# Altium schematic symbol library IC_Samsung_SIP-007AFS001_eec.SchLib: 1 symbol
Pins are listed as number, name and electrical type; pins without a type are passive.

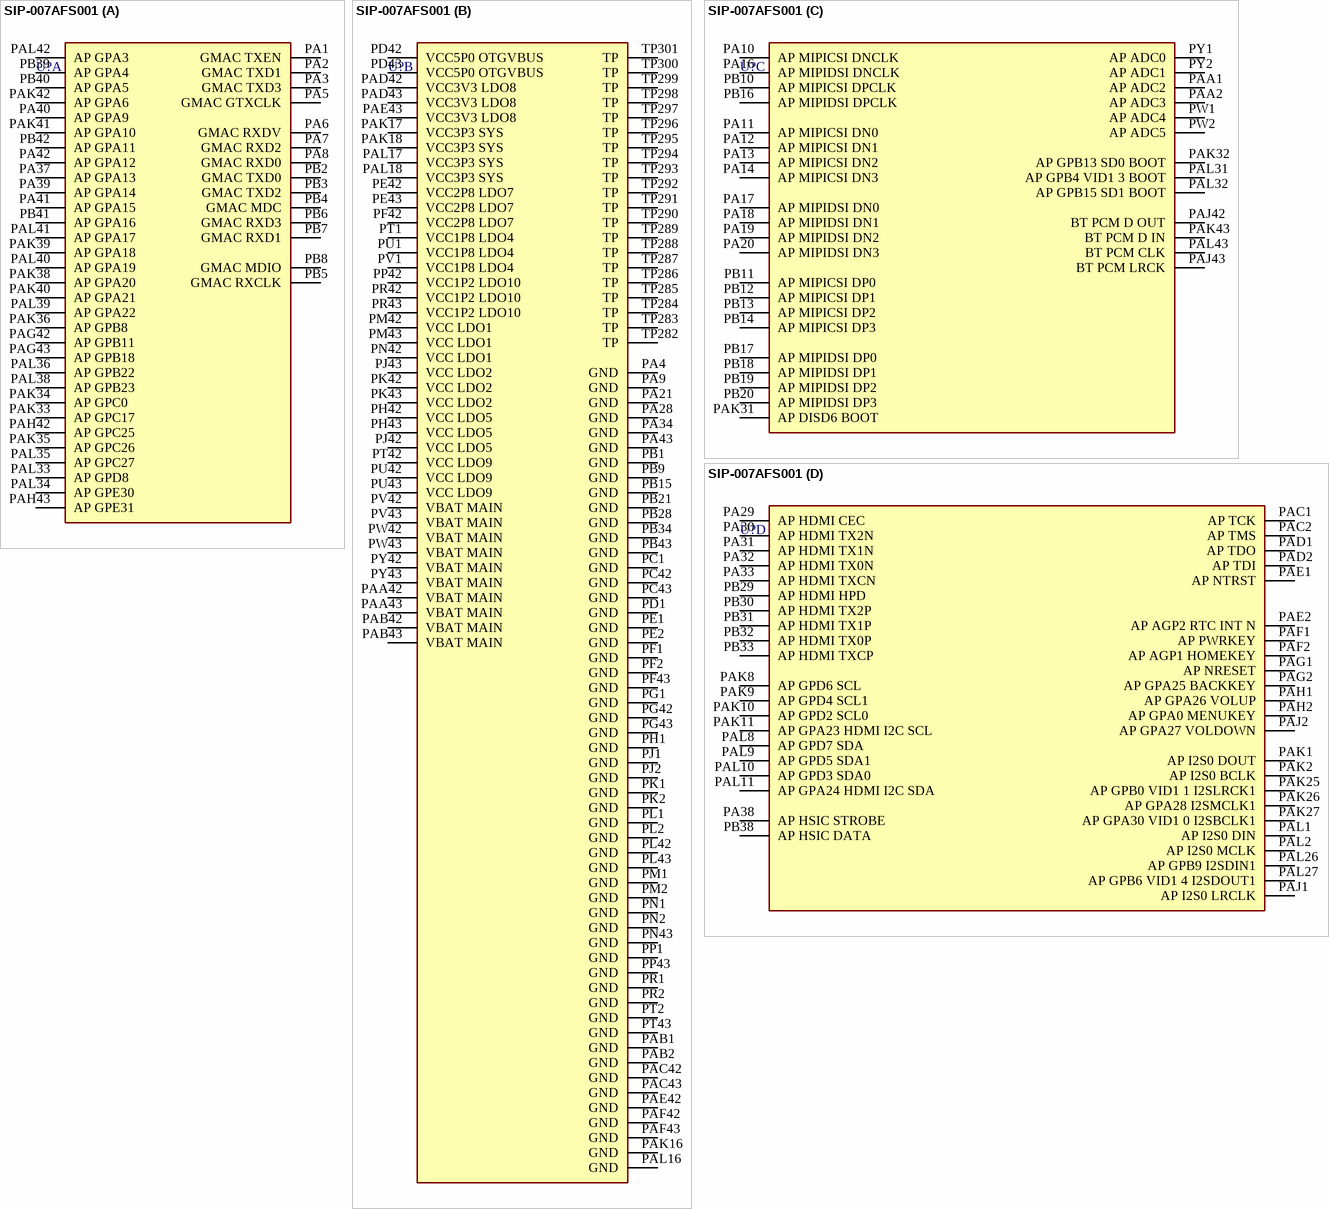
[diagram p0: symbol SIP-007AFS001]

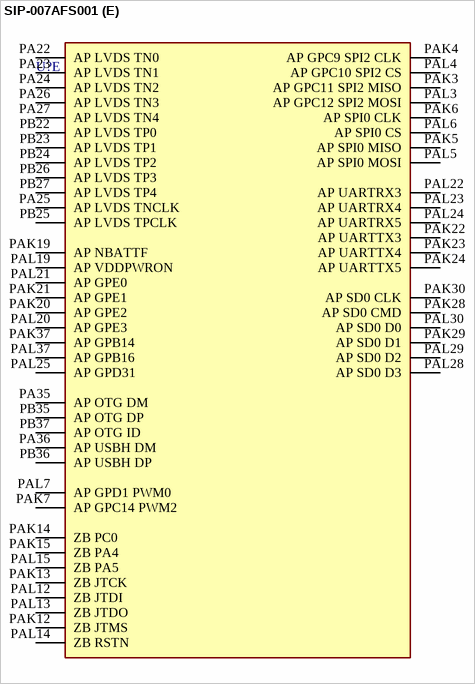
[diagram p1: symbol SIP-007AFS001]

## SIP-007AFS001
designator U?  (value not drawn)
part A pins: PA1 GMAC TXEN, PA2 GMAC TXD1, PA3 GMAC TXD3, PA5 GMAC GTXCLK, PA6 GMAC RXDV, PA7 GMAC RXD2, PA8 GMAC RXD0, PA37 AP GPA13, PA39 AP GPA14, PA40 AP GPA9, PA41 AP GPA15, PA42 AP GPA12, PAG42 AP GPB11, PAG43 AP GPB18, PAH42 AP GPC25, PAH43 AP GPE31, PAK33 AP GPC17, PAK34 AP GPC0, PAK35 AP GPC26, PAK36 AP GPB8, PAK38 AP GPA20, PAK39 AP GPA18, PAK40 AP GPA21, PAK41 AP GPA10, PAK42 AP GPA6, PAL33 AP GPD8, PAL34 AP GPE30, PAL35 AP GPC27, PAL36 AP GPB22, PAL38 AP GPB23, PAL39 AP GPA22, PAL40 AP GPA19, PAL41 AP GPA17, PAL42 AP GPA3, PB2 GMAC TXD0, PB3 GMAC TXD2, PB4 GMAC MDC, PB5 GMAC RXCLK, PB6 GMAC RXD3, PB7 GMAC RXD1, PB8 GMAC MDIO, PB39 AP GPA4, PB40 AP GPA5, PB41 AP GPA16, PB42 AP GPA11
part B pins: PA4 GND, PA9 GND, PA21 GND, PA28 GND, PA34 GND, PA43 GND, PAA42 VBAT MAIN, PAA43 VBAT MAIN, PAB1 GND, PAB2 GND, PAB42 VBAT MAIN, PAB43 VBAT MAIN, PAC42 GND, PAC43 GND, PAD42 VCC3V3 LDO8, PAD43 VCC3V3 LDO8, PAE42 GND, PAE43 VCC3V3 LDO8, PAF42 GND, PAF43 GND, PAK16 GND, PAK17 VCC3P3 SYS, PAK18 VCC3P3 SYS, PAL16 GND, PAL17 VCC3P3 SYS, PAL18 VCC3P3 SYS, PB1 GND, PB9 GND, PB15 GND, PB21 GND, PB28 GND, PB34 GND, PB43 GND, PC1 GND, PC42 GND, PC43 GND, PD1 GND, PD42 VCC5P0 OTGVBUS, PD43 VCC5P0 OTGVBUS, PE1 GND, PE2 GND, PE42 VCC2P8 LDO7, PE43 VCC2P8 LDO7, PF1 GND, PF2 GND, PF42 VCC2P8 LDO7, PF43 GND, PG1 GND, PG42 GND, PG43 GND, PH1 GND, PH42 VCC LDO5, PH43 VCC LDO5, PJ1 GND, PJ2 GND, PJ42 VCC LDO5, PJ43 VCC LDO2, PK1 GND, PK2 GND, PK42 VCC LDO2, PK43 VCC LDO2, PL1 GND, PL2 GND, PL42 GND, PL43 GND, PM1 GND, PM2 GND, PM42 VCC LDO1, PM43 VCC LDO1, PN1 GND, PN2 GND, PN42 VCC LDO1, PN43 GND, PP1 GND, PP42 VCC1P2 LDO10, PP43 GND, PR1 GND, PR2 GND, PR42 VCC1P2 LDO10, PR43 VCC1P2 LDO10, PT1 VCC1P8 LDO4, PT2 GND, PT42 VCC LDO9, PT43 GND, PU1 VCC1P8 LDO4, PU42 VCC LDO9, PU43 VCC LDO9, PV1 VCC1P8 LDO4, PV42 VBAT MAIN, PV43 VBAT MAIN, PW42 VBAT MAIN, PW43 VBAT MAIN, PY42 VBAT MAIN, PY43 VBAT MAIN, TP282 TP, TP283 TP, TP284 TP, TP285 TP, TP286 TP, TP287 TP, TP288 TP, TP289 TP, TP290 TP, TP291 TP, TP292 TP, TP293 TP, TP294 TP, TP295 TP, TP296 TP, TP297 TP, TP298 TP, TP299 TP, TP300 TP, TP301 TP
part C pins: PA10 AP MIPICSI DNCLK, PA11 AP MIPICSI DN0, PA12 AP MIPICSI DN1, PA13 AP MIPICSI DN2, PA14 AP MIPICSI DN3, PA16 AP MIPIDSI DNCLK, PA17 AP MIPIDSI DN0, PA18 AP MIPIDSI DN1, PA19 AP MIPIDSI DN2, PA20 AP MIPIDSI DN3, PAA1 AP ADC2, PAA2 AP ADC3, PAJ42 BT PCM D OUT, PAJ43 BT PCM LRCK, PAK31 AP DISD6 BOOT, PAK32 AP GPB13 SD0 BOOT, PAK43 BT PCM D IN, PAL31 AP GPB4 VID1 3 BOOT, PAL32 AP GPB15 SD1 BOOT, PAL43 BT PCM CLK, PB10 AP MIPICSI DPCLK, PB11 AP MIPICSI DP0, PB12 AP MIPICSI DP1, PB13 AP MIPICSI DP2, PB14 AP MIPICSI DP3, PB16 AP MIPIDSI DPCLK, PB17 AP MIPIDSI DP0, PB18 AP MIPIDSI DP1, PB19 AP MIPIDSI DP2, PB20 AP MIPIDSI DP3, PW1 AP ADC4, PW2 AP ADC5, PY1 AP ADC0, PY2 AP ADC1
part D pins: PA29 AP HDMI CEC, PA30 AP HDMI TX2N, PA31 AP HDMI TX1N, PA32 AP HDMI TX0N, PA33 AP HDMI TXCN, PA38 AP HSIC STROBE, PAC1 AP TCK, PAC2 AP TMS, PAD1 AP TDO, PAD2 AP TDI, PAE1 AP NTRST, PAE2 AP AGP2 RTC INT N, PAF1 AP PWRKEY, PAF2 AP AGP1 HOMEKEY, PAG1 AP NRESET, PAG2 AP GPA25 BACKKEY, PAH1 AP GPA26 VOLUP, PAH2 AP GPA0 MENUKEY, PAJ1 AP I2S0 LRCLK, PAJ2 AP GPA27 VOLDOWN, PAK1 AP I2S0 DOUT, PAK2 AP I2S0 BCLK, PAK8 AP GPD6 SCL, PAK9 AP GPD4 SCL1, PAK10 AP GPD2 SCL0, PAK11 AP GPA23 HDMI I2C SCL, PAK25 AP GPB0 VID1 1 I2SLRCK1, PAK26 AP GPA28 I2SMCLK1, PAK27 AP GPA30 VID1 0 I2SBCLK1, PAL1 AP I2S0 DIN, PAL2 AP I2S0 MCLK, PAL8 AP GPD7 SDA, PAL9 AP GPD5 SDA1, PAL10 AP GPD3 SDA0, PAL11 AP GPA24 HDMI I2C SDA, PAL26 AP GPB9 I2SDIN1, PAL27 AP GPB6 VID1 4 I2SDOUT1, PB29 AP HDMI HPD, PB30 AP HDMI TX2P, PB31 AP HDMI TX1P, PB32 AP HDMI TX0P, PB33 AP HDMI TXCP, PB38 AP HSIC DATA
part E pins: PA22 AP LVDS TN0, PA23 AP LVDS TN1, PA24 AP LVDS TN2, PA25 AP LVDS TNCLK, PA26 AP LVDS TN3, PA27 AP LVDS TN4, PA35 AP OTG DM, PA36 AP USBH DM, PAK3 AP GPC11 SPI2 MISO, PAK4 AP GPC9 SPI2 CLK, PAK5 AP SPI0 MISO, PAK6 AP SPI0 CLK, PAK7 AP GPC14 PWM2, PAK12 ZB JTMS, PAK13 ZB JTCK, PAK14 ZB PC0, PAK15 ZB PA4, PAK19 AP NBATTF, PAK20 AP GPE2, PAK21 AP GPE1, PAK22 AP UARTTX3, PAK23 AP UARTTX4, PAK24 AP UARTTX5, PAK28 AP SD0 CMD, PAK29 AP SD0 D1, PAK30 AP SD0 CLK, PAK37 AP GPB14, PAL3 AP GPC12 SPI2 MOSI, PAL4 AP GPC10 SPI2 CS, PAL5 AP SPI0 MOSI, PAL6 AP SPI0 CS, PAL7 AP GPD1 PWM0, PAL12 ZB JTDI, PAL13 ZB JTDO, PAL14 ZB RSTN, PAL15 ZB PA5, PAL19 AP VDDPWRON, PAL20 AP GPE3, PAL21 AP GPE0, PAL22 AP UARTRX3, PAL23 AP UARTRX4, PAL24 AP UARTRX5, PAL25 AP GPD31, PAL28 AP SD0 D3, PAL29 AP SD0 D2, PAL30 AP SD0 D0, PAL37 AP GPB16, PB22 AP LVDS TP0, PB23 AP LVDS TP1, PB24 AP LVDS TP2, PB25 AP LVDS TPCLK, PB26 AP LVDS TP3, PB27 AP LVDS TP4, PB35 AP OTG DP, PB36 AP USBH DP, PB37 AP OTG ID